# Altium schematic symbol library Button1.SchLib: 1 symbol
Pins are listed as number, name and electrical type; pins without a type are passive.

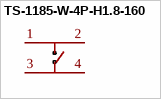
[diagram p0: symbol TS-1185-W-4P-H1.8-160]

## TS-1185-W-4P-H1.8-160
designator SW?  (value not drawn)
Manufacturer: CAX(创都); Add into BOM: yes; Symbol: TS-1185-W-4P-H1.8-160; Device: TS-1185-W-4P-H1.8-160; LCSC Part Name: TS-1185-W-4P-H1.8-160; Supplier Part: C51927445; Manufacturer Part: TS-1185-W-4P-H1.8-160; Supplier Footprint: SMD-4P,3.5x3mm; JLCPCB Part Class: Extended Part; Datasheet: https://item.szlcsc.com/datasheet/TS-1185-W-4P-H1.8-160/54633806.html; Supplier: LCSC; Convert to PCB: yes
footprint SW-SMD_4P-L3.5-W3.0-P1.50-LS4.7
3D model SW-SMD_4P-L3.5-W3.0-H2-P1.50-LS4.7
pins: 1, 2, 3, 4